# EAGLE library part SSR (library FiftyOneFunParts)
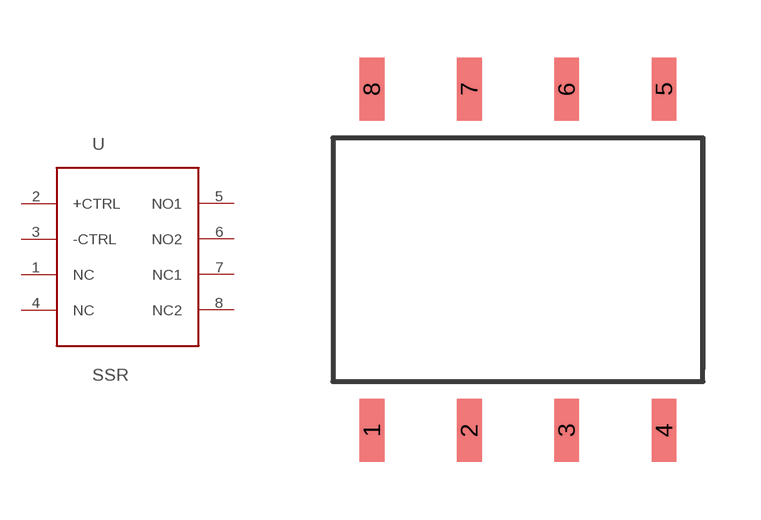
[diagram p5: symbol with the pads of SSR; footprint SSR]

Designator prefix -

## SSR  [SSR]
1  NC
2  +CTRL
3  -CTRL
4  NC
5  NO1
6  NO2
7  NC1
8  NC2

## Footprint SSR (pad centres in mm)
smd 0.65 x 1.65: 1 -3.81,-4.45; 2 -1.27,-4.45; 3 1.27,-4.45; 4 3.81,-4.45; 5 3.81,4.45; 6 1.27,4.45; 7 -1.27,4.45; 8 -3.81,4.45